# Altium schematic symbol library 接触器.SchLib: 12 symbols
Pins are listed as number, name and electrical type; pins without a type are passive.

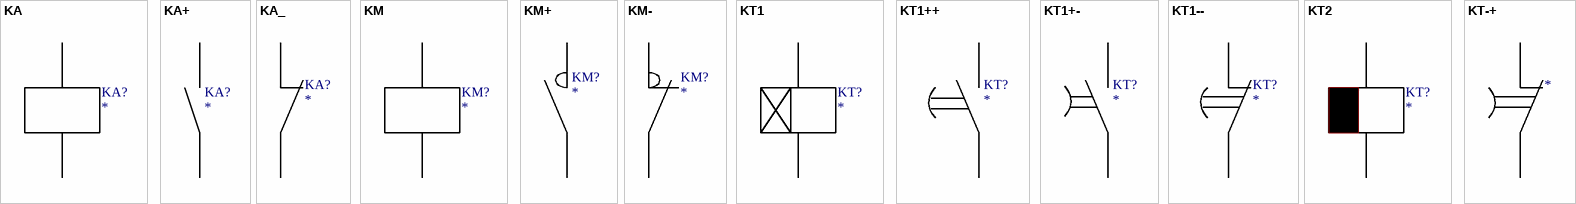
[diagram p0: symbols KA to KT-+]

## KA
designator KA?
pins: 1, 2

## KA+
designator KA?
pins: 6, 7

## KA_
designator KA?
pins: 1, 2

## KM
designator KM?
pins: 1, 2

## KM+
designator KM?
pins: 6, 7

## KM-
designator KM?
pins: 6, 7

## KT1
designator KT?
pins: 1, 2

## KT1++
designator KT?
pins: 1, 2

## KT1+-
designator KT?
pins: 1, 2

## KT1--
designator KT?
pins: 1, 2

## KT2
designator KT?
pins: 1, 2

## KT-+
designator ?
pins: 1, 2